# EAGLE library part OTA_CA3080 (library 258Verbos)
OTA
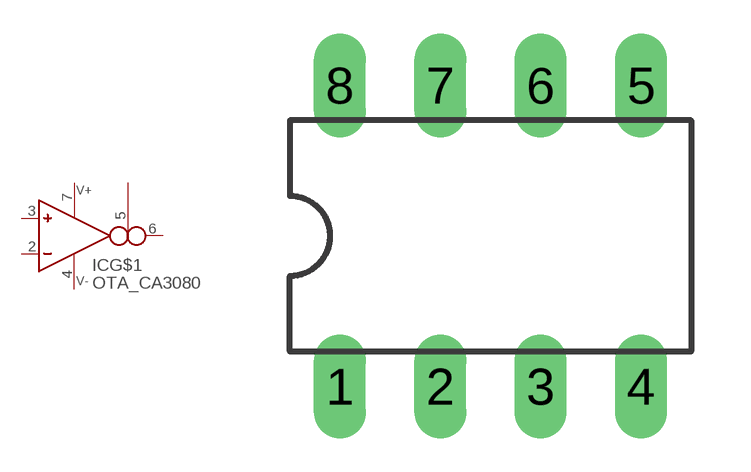
[diagram p5: symbol with the pads of OTA_DIL08; footprint OTA_DIL08]

Designator prefix IC; gates G$1=OTA_OTA_BASIC G$2=OTA_OTA_SUPPLY

## OTA_CA3080E  [OTA_DIL08]
2  G$1:IN_N  in
3  G$1:IN_P  in
4  G$2:V-  sup
5  G$1:I_BIAS  in
6  G$1:OUT  out
7  G$2:V+  sup

## Footprint OTA_DIL08 (pad centres in mm)
Dual In Line Package
drill 0.813 long: 1 -3.81,-3.81; 2 -1.27,-3.81; 3 1.27,-3.81; 4 3.81,-3.81; 5 3.81,3.81; 6 1.27,3.81; 7 -1.27,3.81; 8 -3.81,3.81